# Altium footprint library Footprints.PcbLib: 39 footprints (part 3 of 3)
Each footprint in its own frame and in the unit in brackets; x right, y up, seen from the top. Pads: shape width x height; smd on the part's side, far side on the other; paste and mask are expansions set on the pad; w line width, h text height; cw(c..) or ccw(c..) is an arc to the next point about the centre after c.
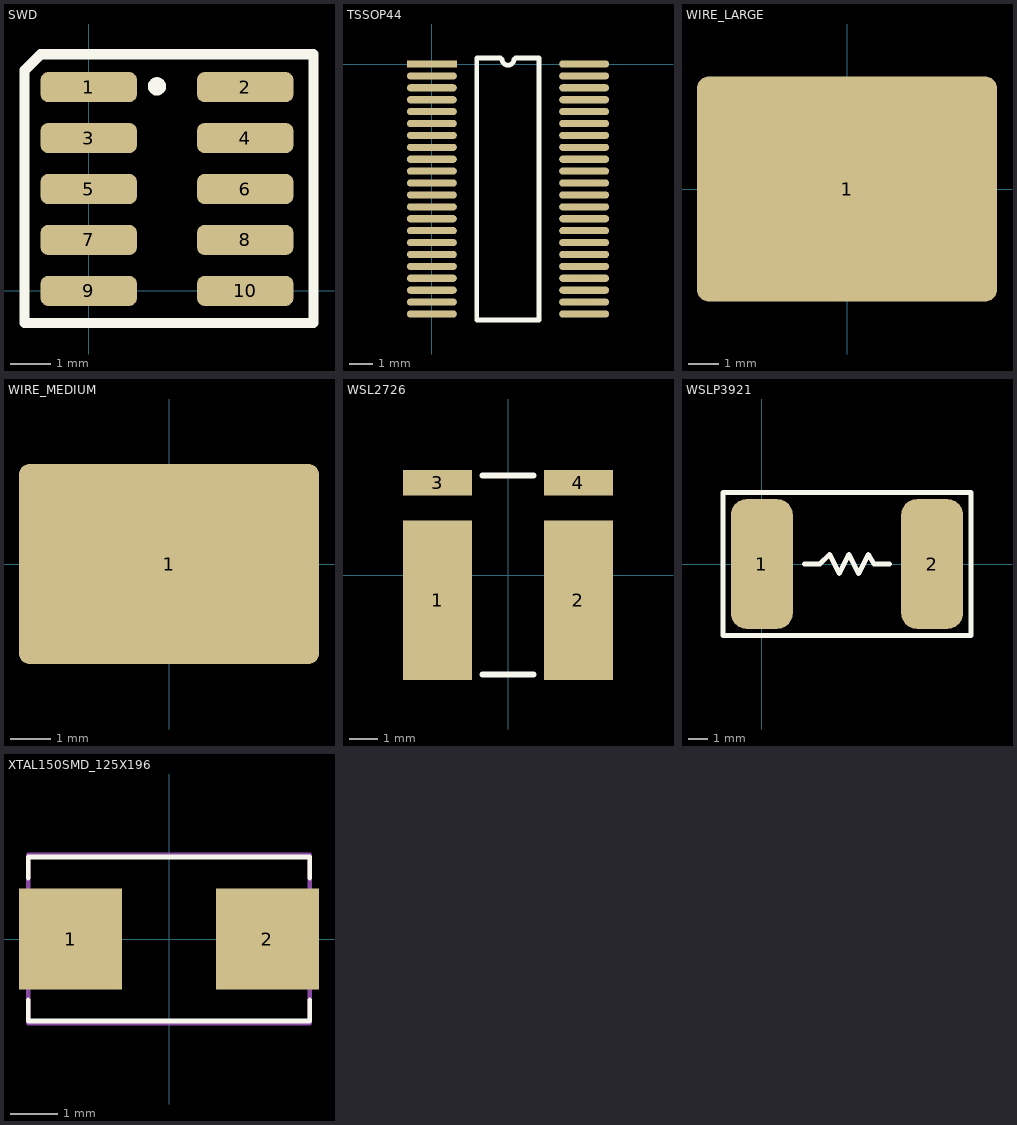
[diagram p2: the footprints below, top view; thin cyan lines are the x and y axes]

## SWD [mm] "SWD Connector"
pads (10):
  rrect50% 2.4x0.75 smd: 1(0,5.08) 2(3.9,5.08) 3(0,3.81) 4(3.9,3.81) 5(0,2.54) 6(3.9,2.54) 7(0,1.27) 8(3.9,1.27) 9(0,0) 10(3.9,0)
Top Overlay:
  circle w0.254: c1.7,5.1 r0.1
  lines w0.254: -1.6,-0.8 -1.6,5.5 -1.2,5.9 5.6,5.9 5.6,-0.8 -1.6,-0.8

## TSSOP44 [mm]
pads (44):
  rect 2.1x0.3 smd: 1(0,0)
  oval 2.1x0.3 smd: 2(0,-0.5) 3(0,-1) 4(0,-1.5) 5(0,-2) 6(0,-2.5) 7(0,-3) 8(0,-3.5) 9(0,-4) 10(0,-4.5) 11(0,-5) 12(0,-5.5) 13(0,-6) 14(0,-6.5) 15(0,-7) 16(0,-7.5) 17(0,-8) 18(0,-8.5) 19(0,-9) 20(0,-9.5) 21(0,-10) 22(0,-10.5) 23(6.4,-10.5) 24(6.4,-10) 25(6.4,-9.5) 26(6.4,-9) 27(6.4,-8.5) 28(6.4,-8) 29(6.4,-7.5) 30(6.4,-7) 31(6.4,-6.5) 32(6.4,-6) 33(6.4,-5.5) 34(6.4,-5) 35(6.4,-4.5) 36(6.4,-4) 37(6.4,-3.5) 38(6.4,-3) 39(6.4,-2.5) 40(6.4,-2) 41(6.4,-1.5) 42(6.4,-1) 43(6.4,-0.5) 44(6.4,0)
Top Overlay:
  lines w0.2: 1.885,-10.75 1.885,0.25 2.9,0.25 2.95,0.2 ccw(c3.2,0.2) 3.45,0.2 3.5,0.25 4.5,0.25 4.5,-10.75 1.885,-10.75

## WIRE_LARGE [mm]
pads (1):
  rrect10% 10x7.5 smd: 1(0,0)

## WIRE_MEDIUM [mm]
pads (1):
  rrect10% 7.5x5 smd: 1(0,0)

## WSL2726 [mm]
pads (4):
  rect 2.44x5.6 smd: 1(-2.48,-0.89) 2(2.48,-0.89)
  rect 2.44x0.89 smd: 3(-2.48,3.245) 4(2.48,3.245)
Top Overlay:
  lines w0.2: -0.9,-3.5 0.9,-3.5 ; -0.9,3.5 0.9,3.5
3D body "User Library-wsl2726_500u.step": height 2.95, standoff 0, extent -3.425,-3.025 3.475,3.575

## WSLP3921 [mm] "5W Current Sense Resistor"
pads (2):
  rrect50% 3.2x6.7 smd: 1(0,0) 2(8.8,0)
Top Overlay:
  lines w0.254: 2.2,0 3,0 3.5,0.5 4,-0.5 4.5,0.5 5,-0.5 5.5,0.5 5.8,0 6.6,0 ; -2,-3.7 -2,3 -2,3.7 10.1,3.7 10.8,3.7 10.8,-3.7 -2,-3.7

## XTAL150SMD_125X196 [mm] "XTAL150SMD_125X196"
pads (2):
  rect 2.2x2.159 smd mask+0.051: 1(-2.1,0) 2(2.1,0)
Top Overlay:
  lines w0.1: -3,-1.3 -3,-1.75 3,-1.75 3,-1.3 ; -3,1.3 -3,1.75 3,1.75 3,1.3
Mechanical 29:
  rectangle: -3,-0.3 -2.5,0.3
  lines w0.1: -3,-1.8 3,-1.8 3,1.8 -3,1.8 -3,-1.8
  text ".Designator" at -2.3,-0.3 h0.8
3D body "User Library-ABM7.step": height 1.44, standoff 0, extent -3.05,-1.75 3.05,1.75